# Altium footprint library PCB - MICROPHONE - TDK ICS-40730.PcbLib: 1 footprints
Each footprint in its own frame and in the unit in brackets; x right, y up, seen from the top. Pads: shape width x height; smd on the part's side, far side on the other; paste and mask are expansions set on the pad; w line width, h text height; cw(c..) or ccw(c..) is an arc to the next point about the centre after c.
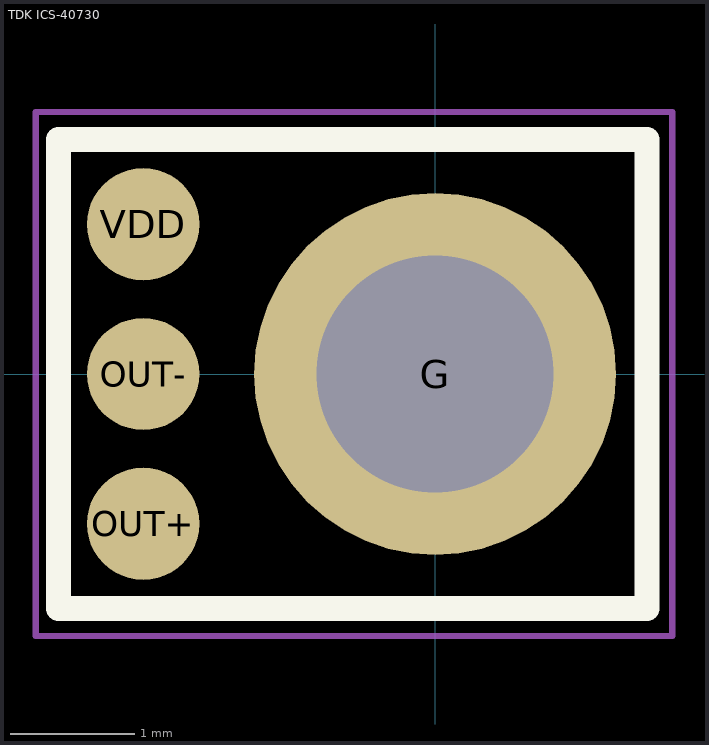
[diagram p0: the footprint, top view; thin cyan lines are the x and y axes]

## TDK ICS-40730 [mm] "MICROPHONE MEMS ANALOG NC -32DB 4.72mm x 3.76mm"
height 3.6
pads (4):
  round 2.9 hole 1.9 unplated paste+0 mask+0: G(0,0)
  round 0.9 smd paste-0.125: OUT+(-2.34,-1.2) OUT-(-2.34,0) VDD(-2.34,1.2)
Top Overlay:
  lines w0.2: -3.02,-1.88 1.7,-1.88 1.7,1.88 -3.02,1.88 -3.02,-1.88
Top Paste:
  lines w0.3: -1.28,-0.226 ccw(c0,0) -0.226,-1.28 ; -1.28,0.226 cw(c0,0) -0.226,1.28 ; 0.226,-1.28 ccw(c0,0) 1.28,-0.226 ; 0.226,1.28 cw(c0,0) 1.28,0.226
Top Solder:
  circle w0.3: c0,0 r1.3
Mechanical 13:
  lines w0.1: -3.02,-1.88 1.7,-1.88 1.7,1.88 -3.02,1.88 -3.02,-1.88
Mechanical 15:
  lines w0.05: -0.5,0 0.5,0 ; 0,-0.5 0,0.5 ; -3.2,-2.1 1.9,-2.1 1.9,2.1 -3.2,2.1 -3.2,-2.1
3D body "TDK - ICS-40730.step": height 3.6, standoff 0, extent -3.02,-1.88 1.7,1.88